# Altium footprint library Buzer.PcbLib: 7 footprints
Each footprint in its own frame and in the unit in brackets; x right, y up, seen from the top. Pads: shape width x height; smd on the part's side, far side on the other; paste and mask are expansions set on the pad; w line width, h text height; cw(c..) or ccw(c..) is an arc to the next point about the centre after c.
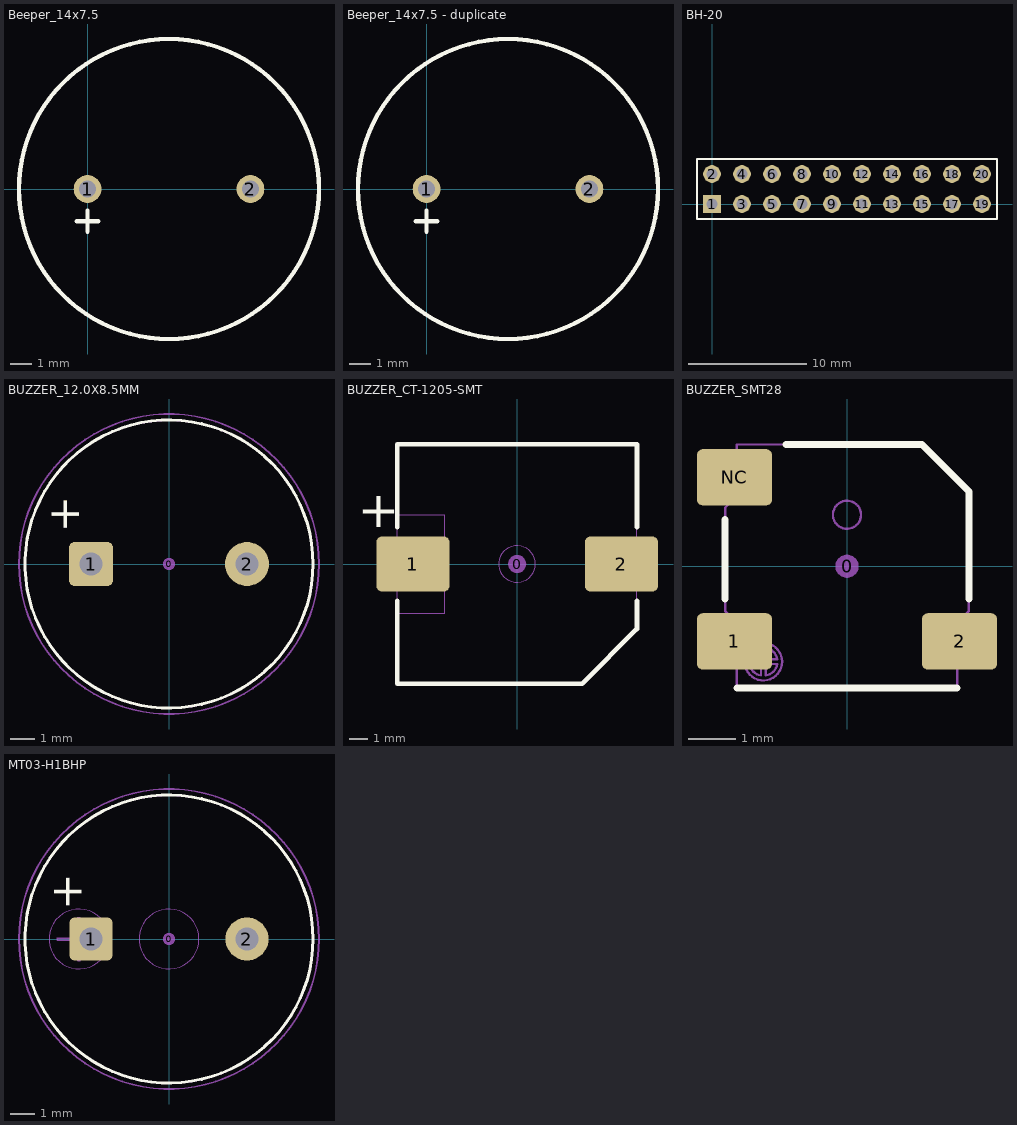
[diagram p0: the footprints below, top view; thin cyan lines are the x and y axes]

## Beeper_14x7.5 [mm]
height 0.001
pads (2):
  round 1.3 hole 0.8: 1(0,0) 2(7.6,0)
Top Overlay:
  circle w0.2: c3.8,0 r7
  lines w0.2: -0.5,-1.5 0.5,-1.5 ; 0,-2 0,-1
3D body "HMP14A.step": height 7.59, standoff -5.5, extent -3.045,-6.845 10.645,6.845

## Beeper_14x7.5 - duplicate [mm]
height 0.001
pads (2):
  round 1.3 hole 0.8: 1(0,0) 2(7.6,0)
Top Overlay:
  circle w0.2: c3.8,0 r7
  lines w0.2: -0.5,-1.5 0.5,-1.5 ; 0,-2 0,-1
3D body "HMP14A.step": height 7.59, standoff -5.5, extent -3.045,-6.845 10.645,6.845

## BH-20 [mm] "Connector; Header; 10x2 Position"
height 9
pads (20):
  rect 1.5x1.5 hole 0.9: 1(0,0)
  round 1.5 hole 0.9: 2(0,2.54) 3(2.54,0) 4(2.54,2.54) 5(5.08,0) 6(5.08,2.54) 7(7.62,0) 8(7.62,2.54) 9(10.16,0) 10(10.16,2.54) 11(12.7,0) 12(12.7,2.54) 13(15.24,0) 14(15.24,2.54) 15(17.78,0) 16(17.78,2.54) 17(20.32,0) 18(20.32,2.54) 19(22.86,0) 20(22.86,2.54)
Top Overlay:
  lines w0.2: -1.27,-1.27 0.635,-1.27 24.13,-1.27 24.13,3.81 0.635,3.81 -1.27,3.81 -1.27,-1.27
3D body "BH-20.step": height 8.75, standoff -3.1, extent -5.08,-3.105 27.94,5.995

## BUZZER_12.0X8.5MM [mil]
height 354.33
pads (3):
  round 20 on Mech15: 0(0,0)
  rrect25% 72x72 / inner rrect25% 72x72 / far side rrect25% 90x90 hole 38: 1(-127.95,0)
  round 72 / inner round 72 / far side round 90 hole 38: 2(127.95,0)
Top Overlay:
  circle w5: c0,0 r236.22
  text "+" at -129.92,51.18 h90
Mechanical 13:
  circle w3: c0.14,-0.47 r236.22
Mechanical 15:
  circle w3: c0,0 r246.06
3D body "3100-xxx speaker 8.5mm.STEP": height 354.33, standoff -110.24, extent -246.02,-246.04 246.07,246.06
3D body "TH pad - 28 pin x 90.STEP": height 50, standoff 0, extent 83.31,-44.9 172.96,44.92
3D body "TH pad - 28 pin x 90.STEP": height 50, standoff 0, extent -172.59,-44.91 -82.95,44.92

## BUZZER_CT-1205-SMT [mm] "Buzzer SMD sealed 12.8 L x 12.8 W x 7.6mm H 5Vp"
height 7.6
pads (3):
  round 1 on Mech15: 0(0,0)
  rrect20% 4x3 smd: 1(-5.7,0) 2(5.7,0)
Top Overlay:
  lines w0.254: -6.55,-2 -6.55,-6.55 3.55,-6.55 6.55,-3.55 6.55,-2 ; -6.55,2 -6.55,6.55 6.55,6.55 6.55,2
  text "+" at -8.7,2 h2
Mechanical 13:
  circle w0.05: c0,0 r1
  lines w0.05: -6.65,-1.15 -6.65,1.15 ; -6.55,-2.7 -3.95,-2.7 -3.95,2.7 -6.55,2.7 ; -6.55,-1.15 -7.15,-1.15 -7.15,1.15 -6.55,1.15 ; 6.55,-1.15 7.15,-1.15 7.15,1.15 6.55,1.15 ; 6.65,-1.15 6.65,1.15 ; -6.55,-6.55 -6.55,6.55 6.55,6.55 6.55,-3.55 3.55,-6.55 -6.55,-6.55
3D body "CT-1205-SMT.STEP": height 7.6, standoff 0, extent -7.15,-6.55 7.15,6.55

## BUZZER_SMT28 [mm] "Buzzer SMD sealed 5.0 L x 5.0 W x 2.0mm H 5Vp"
height 2.2
pads (4):
  round 0.5 on Mech15: 0(0,0)
  rrect20% 1.6x1.2 smd: 1(-2.4,-1.6) 2(2.4,-1.6) NC(-2.4,1.9)
Top Overlay:
  lines w0.15: -2.6,-0.7 -2.6,1 ; -2.35,-2.6 2.35,-2.6 ; -1.3,2.6 1.6,2.6 2.6,1.6 2.6,-0.7
Mechanical 13:
  circle w0.05: c-1.784,-2.034 r0.4
  circle w0.05: c0,1.1 r0.3
  lines w0.05: -2.65,-1.95 -2.65,-1.25 ; -2.65,1.55 -2.65,2.25 ; -2.35,-1.95 -2.75,-1.95 -2.75,-1.25 -2.35,-1.25 ; -2.35,1.55 -2.75,1.55 -2.75,2.25 -2.35,2.25 ; 2.35,-1.95 2.75,-1.95 2.75,-1.25 2.35,-1.25 ; 2.65,-1.95 2.65,-1.25 ; -2.6,-0.95 -2.35,-1.2 -2.35,-2.6 2.35,-2.6 2.35,-1.2 2.6,-0.95 2.6,1.6 1.6,2.6 -2.35,2.6 -2.35,1.5 -2.6,1.25 -2.6,-0.95 ; -2.08,-2.084 ccw(c-1.784,-2.034) -1.834,-2.33 -1.834,-2.084 -2.08,-2.084 ; -2.08,-1.984 cw(c-1.784,-2.034) -1.834,-1.739 -1.834,-1.984 -2.08,-1.984 ; -1.734,-2.33 ccw(c-1.784,-2.034) -1.489,-2.084 -1.734,-2.084 -1.734,-2.33 ; -1.734,-1.984 -1.734,-1.739 cw(c-1.784,-2.034) -1.489,-1.984 -1.734,-1.984
3D body "Buzzer SMT28 series.STEP": height 2, standoff 0, extent -2.75,-2.6 2.75,2.6

## MT03-H1BHP [mm]
height 10.008
pads (3):
  round 0.508 on Mech15: 0(0,0)
  rrect25% 1.8x1.8 hole 0.965: 1(-3.25,0)
  round 1.8 hole 0.965: 2(3.25,0)
Top Overlay:
  circle w0.127: c0,0 r6
  text "+" at -3.2,1.2 h2.29
Mechanical 13:
  circle w0.05: c0,0 r6.25
  circle w0.05: c-3.75,0 r1.25
  circle w0.05: c0,0 r5.996
  circle w0.05: c0,0 r1.25
  circle w0.076: c0.003,-0.012 r6
  lines w0.05: -4.65,-0.05 -4.65,0.05 ; -4.65,-0.05 -4.625,-0.025 ; -4.65,-0.05 -3.775,-0.05 ; -4.65,0.05 -4.625,0.025 ; -4.65,0.05 -3.775,0.05 ; -4.625,-0.025 -4.625,0.025 ; -4.625,-0.025 -3.8,-0.025 ; -4.625,0.025 -3.8,0.025 ; -3.8,-0.9 -3.8,-0.025 ; -3.8,-0.9 -3.775,-0.875 ; -3.8,-0.9 -3.7,-0.9 ; -3.8,-0.025 cw(c-3.8,-0.05) -3.775,-0.05 ; -3.8,0.025 ccw(c-3.8,0.05) -3.775,0.05 ; -3.8,0.025 -3.8,0.9 ; -3.8,0.9 -3.7,0.9 ; -3.8,0.9 -3.775,0.875 ; -3.775,-0.875 -3.775,-0.05 ; -3.775,-0.875 -3.725,-0.875 ; -3.775,0.05 -3.775,0.875 ; -3.775,0.875 -3.725,0.875 ; -3.725,-0.875 -3.725,-0.05 ; -3.725,-0.875 -3.7,-0.9 ; -3.725,-0.05 cw(c-3.7,-0.05) -3.7,-0.025 ; -3.725,-0.05 -2.85,-0.05 ; -3.725,0.05 ccw(c-3.7,0.05) -3.7,0.025 ; -3.725,0.05 -3.725,0.875 ; -3.725,0.05 -2.85,0.05 ; -3.725,0.875 -3.7,0.9 ; -3.7,-0.9 -3.7,-0.025 ; -3.7,-0.025 -2.875,-0.025 ; -3.7,0.025 -2.875,0.025 ; -3.7,0.025 -3.7,0.9 ; -2.875,-0.025 -2.85,-0.05 ; -2.875,-0.025 -2.875,0.025 ; -2.875,0.025 -2.85,0.05 ; -2.85,-0.05 -2.85,0.05
Mechanical 15:
  circle w0.076: c0,0 r6.25
3D body "Buzzer MT03-H1BHP.STEP": height 10, standoff -2.8, extent -6.249,-6.249 6.25,6.25